# EAGLE library part 10PINHEADER2.54MM (library ArduinoMegaShield2)
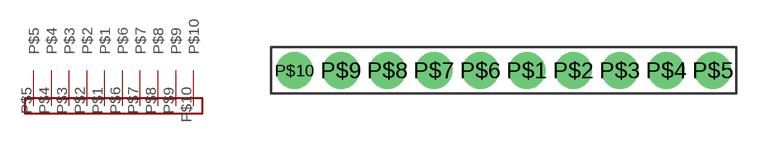
[diagram p0: symbol with the pads of 10PINHEADER2.54MM; footprint 10PINHEADER2.54MM]

Designator prefix -

## 10PINHEADER2.54MM  [10PINHEADER2.54MM]
P$1  P$1
P$2  P$2
P$3  P$3
P$4  P$4
P$5  P$5
P$6  P$6
P$7  P$7
P$8  P$8
P$9  P$9
P$10  P$10

## Footprint 10PINHEADER2.54MM (pad centres in mm)
drill 1.1 pad 2: P$1 1.27,0; P$2 3.81,0; P$3 6.35,0; P$4 8.89,0; P$5 11.43,0; P$6 -1.27,0; P$7 -3.81,0; P$8 -6.35,0; P$9 -8.89,0; P$10 -11.43,0